# Altium footprint library Cap 330uF 35V ELCO SMD.PcbLib: 2 footprints
Each footprint in its own frame and in the unit in brackets; x right, y up, seen from the top. Pads: shape width x height; smd on the part's side, far side on the other; paste and mask are expansions set on the pad; w line width, h text height; cw(c..) or ccw(c..) is an arc to the next point about the centre after c.
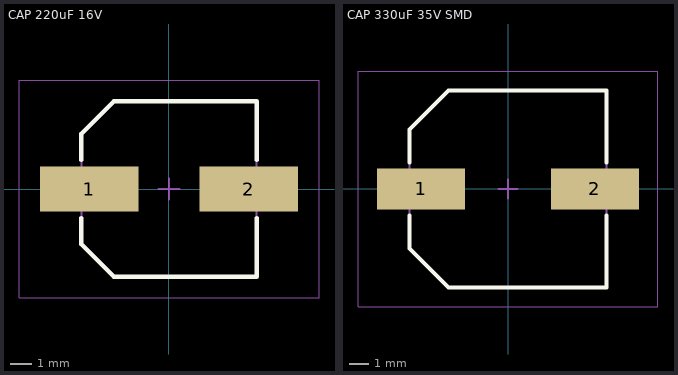
[diagram p0: the footprints below, top view; thin cyan lines are the x and y axes]

## CAP 220uF 16V [mm] "Aluminum Electrolytic Capacitor, Body 8,20x8,20x10,20mm, IPC Low Density"
height 10.2
pads (2):
  rect 4.65x2.15 smd: 1(-3.775,0) 2(3.775,0)
Top Overlay:
  lines w0.2: -4.15,-1.375 -4.15,-2.613 -2.612,-4.15 4.15,-4.15 4.15,-1.375 ; -4.15,1.375 -4.15,2.612 -2.612,4.15 4.15,4.15 4.15,1.375
Mechanical 13:
  lines w0.1: -4.15,-2.613 -4.15,2.612 -2.612,4.15 4.15,4.15 4.15,-4.15 -2.612,-4.15 -4.15,-2.613
Mechanical 15:
  lines w0.05: -7.1,-5.15 7.1,-5.15 7.1,5.15 -7.1,5.15 -7.1,-5.15
  lines w0.1: -0.5,0 0.5,0 ; 0,-0.5 0,0.5
3D body: height 10.2, standoff 0, extent -4,-4 4,3.994
3D body: height 3.4, standoff 0, extent -4.15,-4.15 4.15,4.15

## CAP 330uF 35V SMD [mm] "Aluminum Electrolytic Capacitor, Body 10,20x10,20x10,20mm, IPC Low Density"
height 10.2
pads (2):
  rect 4.6x2.15 smd: 1(-4.55,0) 2(4.55,0)
Top Overlay:
  lines w0.2: -5.15,-1.375 -5.15,-3.113 -3.113,-5.15 5.15,-5.15 5.15,-1.375 ; -5.15,1.375 -5.15,3.112 -3.113,5.15 5.15,5.15 5.15,1.375
Mechanical 13:
  lines w0.1: -5.15,-3.113 -5.15,3.112 -3.113,5.15 5.15,5.15 5.15,-5.15 -3.113,-5.15 -5.15,-3.113
Mechanical 15:
  lines w0.05: -7.85,-6.15 7.85,-6.15 7.85,6.15 -7.85,6.15 -7.85,-6.15
  lines w0.1: -0.5,0 0.5,0 ; 0,-0.5 0,0.5
3D body: height 10.2, standoff 0, extent -5,-5 5,5
3D body: height 3.4, standoff 0, extent -5.15,-5.15 5.15,5.15